# Altium footprint library AUDIO_3.5MM_SJ1-3553NG.PcbLib: 1 footprints
Each footprint in its own frame and in the unit in brackets; x right, y up, seen from the top. Pads: shape width x height; smd on the part's side, far side on the other; paste and mask are expansions set on the pad; w line width, h text height; cw(c..) or ccw(c..) is an arc to the next point about the centre after c.
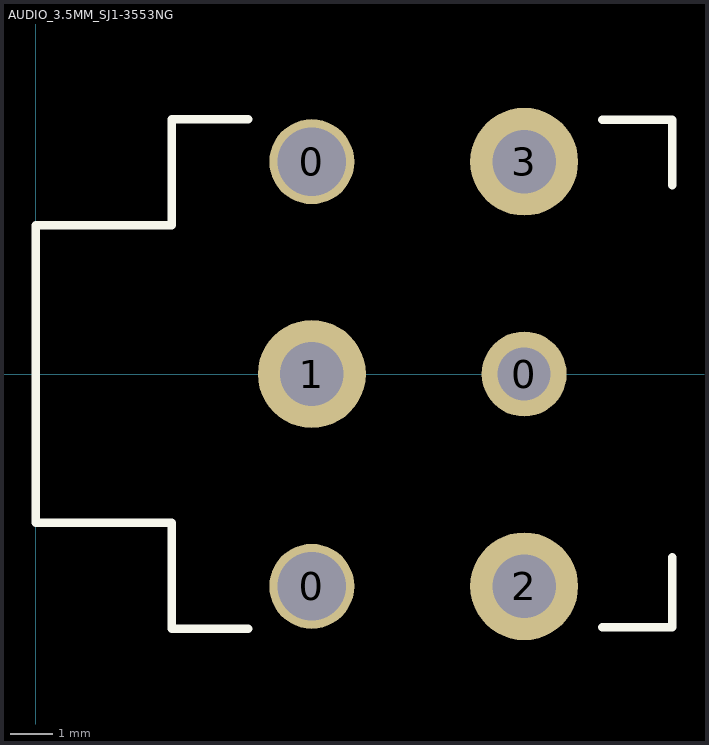
[diagram p0: the footprint, top view; thin cyan lines are the x and y axes]

## AUDIO_3.5MM_SJ1-3553NG [mm] "3.5MM Audio Jack"
pads (6):
  round 2 hole 1.61: 0(6.5,-5) 0(6.5,5)
  round 2 hole 1.25: 0(11.5,0)
  round 2.54 hole 1.5: 1(6.5,0) 2(11.5,-5) 3(11.5,5)
Top Overlay:
  lines w0.2: 5,-6 3.2,-6 3.2,-3.5 0,-3.5 0,0 0,3.5 3.2,3.5 3.2,6 5,6 ; 13.335,-5.969 14.986,-5.969 14.986,-4.318 ; 13.335,5.989 14.986,5.989 14.986,4.445
3D body "CUI_SJ1-3553NG.sldprt": height 10, standoff -4, extent 0,-6 15,6